# Altium footprint library PCB_Footprint.PcbLib: 124 footprints (part 7 of 8)
Each footprint in its own frame and in the unit in brackets; x right, y up, seen from the top. Pads: shape width x height; smd on the part's side, far side on the other; paste and mask are expansions set on the pad; w line width, h text height; cw(c..) or ccw(c..) is an arc to the next point about the centre after c.
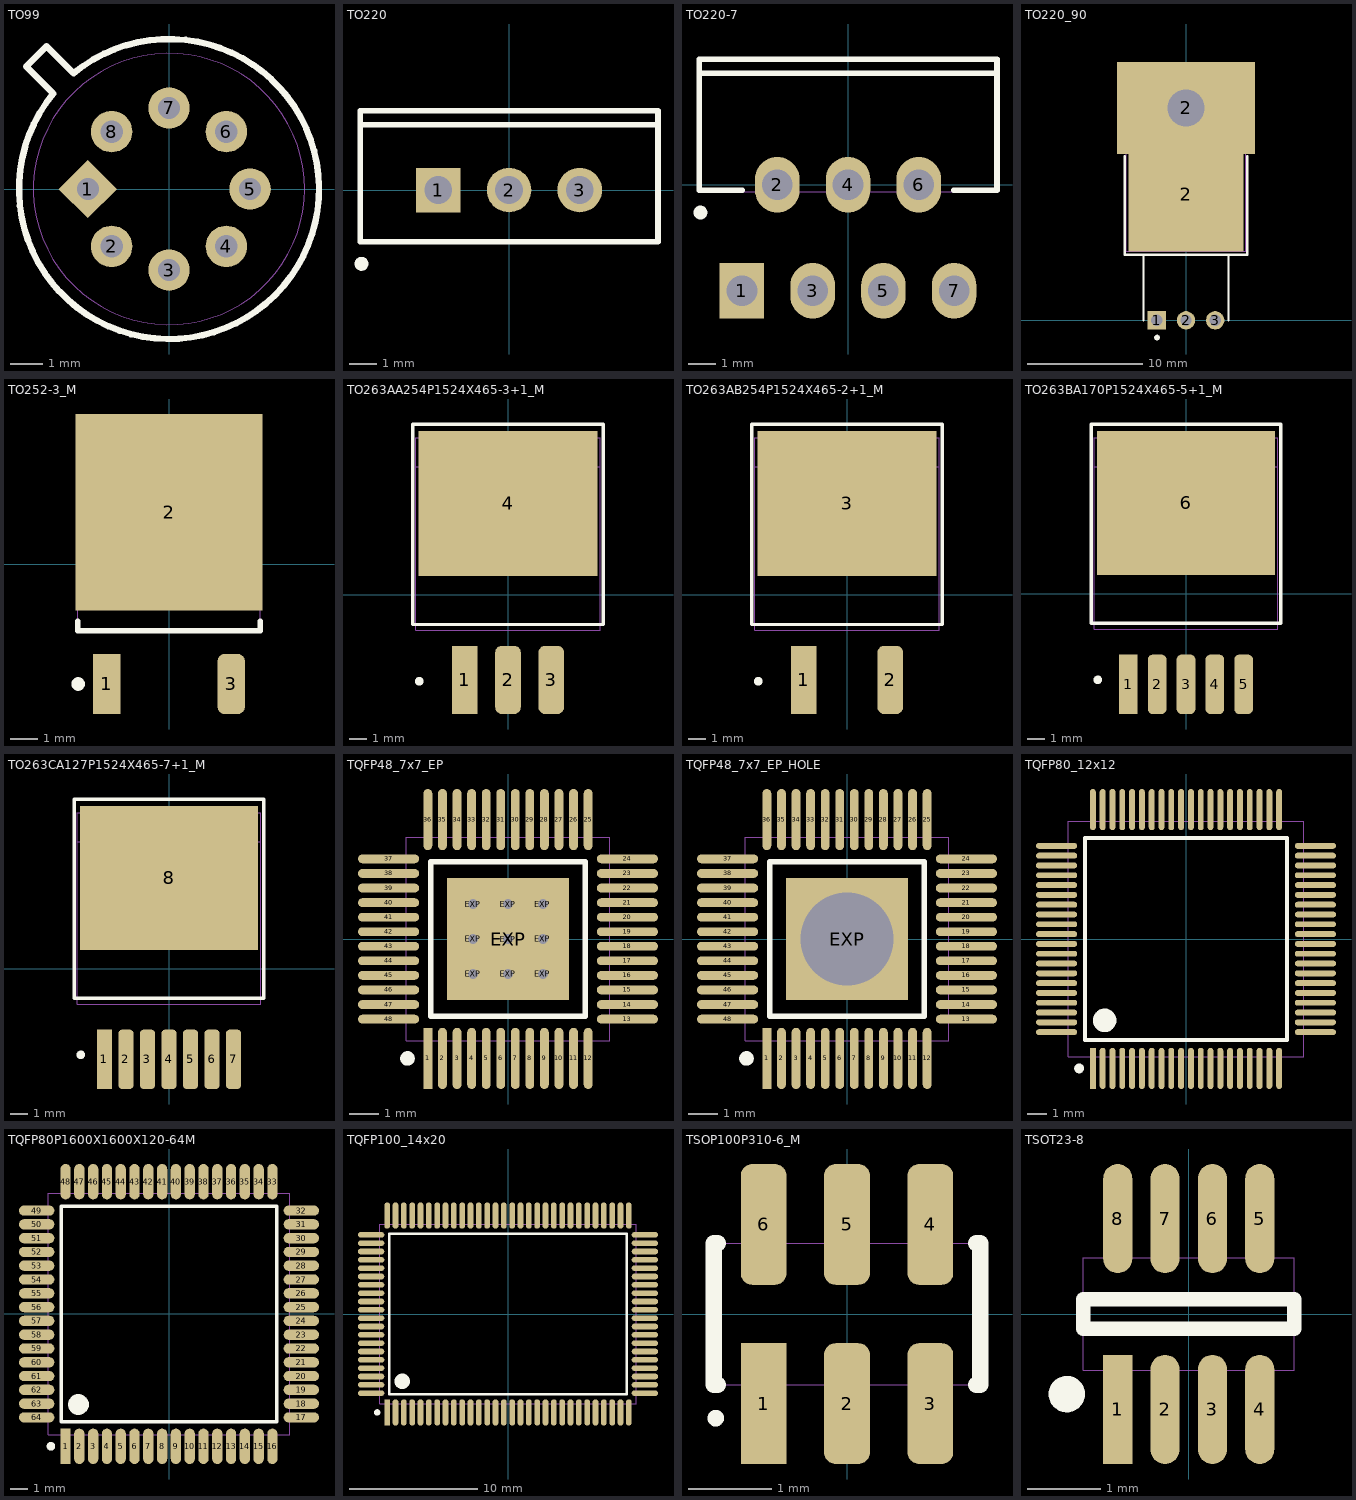
[diagram p6: the footprints below, top view; thin cyan lines are the x and y axes]

## TO99 [mm] "Can; 8 Leads; Pin Circle Dia. 5.08 mm; Lead Dia. 0.51 mm (max)"
height 4.69
pads (8):
  rect 1.3x1.3 / inner round 1.6 / far side rect 1.5x1.5 hole 0.7 rot 45: 1(-2.54,0)
  round 1.3 / inner round 1.6 / far side round 1.5 hole 0.7: 2(-1.796,-1.796) 3(0,-2.54) 4(1.796,-1.796) 5(2.54,0) 6(1.796,1.796) 7(0,2.54) 8(-1.796,1.796)
Top Overlay:
  lines w0.2: -4.475,3.838 -3.626,2.99 ccw(c0,0) -2.99,3.626 -3.838,4.475 -4.475,3.838
Component Body:
  circle w0.01: c0,0 r4.25
  lines w0.01: -4.475,3.838 -3.838,4.475 -2.99,3.626 cw(c0,0) -3.626,2.99 -4.475,3.838
3D body: height 4.69, standoff 0, extent -4.249,-4.249 4.249,4.249
3D body: height 0.9, standoff 0, extent -4.702,-4.712 4.7,4.705
3D body: height 2.5, standoff -6.5, extent -2.788,-0.249 -2.29,0.25
3D body: height 2.5, standoff -6.5, extent -2.044,-2.045 -1.546,-1.546
3D body: height 2.5, standoff -6.5, extent -0.248,-2.789 0.25,-2.29
3D body: height 2.5, standoff -6.5, extent 1.548,-2.045 2.046,-1.546
3D body: height 2.5, standoff -6.5, extent 2.292,-0.249 2.79,0.25
3D body: height 2.5, standoff -6.5, extent 1.548,1.547 2.046,2.046
3D body: height 2.5, standoff -6.5, extent -0.248,2.291 0.25,2.79
3D body: height 2.5, standoff -6.5, extent -2.044,1.547 -1.546,2.046

## TO220 [mm] "TO, Thru-Hole, Vertical, Heatsink Mounted; 3 In-Line Leads; Pitch 2.54 mm"
height 19.4
pads (3):
  rect 1.6x1.6 / inner rect 1.9x1.9 / far side rect 1.6x1.6 hole 1: 1(-2.54,0)
  round 1.6 / inner round 1.9 / far side round 1.6 hole 1: 2(0,0) 3(2.54,0)
Top Overlay:
  circle w0.25: c-5.3,-2.65 r0.125
  lines w0.2: -5.35,2.35 5.35,2.35 ; -5.35,-1.85 -5.35,2.85 5.35,2.85 5.35,-1.85 -5.35,-1.85
Component Body:
  lines w0.01: -5.3,-1.9 -5.3,2.8 5.3,2.8 5.3,-1.9 -5.3,-1.9
3D body: height 18.19, standoff 14.6, extent -1.793,1.55 1.8,2.85
3D body: height 0, standoff -10, extent -2.94,-0.3 -2.14,0.3
3D body: height 0, standoff -10, extent 2.14,-0.3 2.94,0.3
3D body: height 0, standoff -10, extent -0.4,-0.3 0.4,0.3
3D body: height 3.7, standoff 0, extent 1.84,-0.3 3.24,0.3
3D body: height 3.7, standoff 0, extent -3.24,-0.3 -1.84,0.3
3D body: height 19.2, standoff 3.7, extent -5.1,1.6 5.1,2.8
3D body: height 12.8, standoff 3.7, extent -5.1,-1.7 5.1,1.6
3D body: height 3.7, standoff 0, extent -0.7,-0.3 0.7,0.3

## TO220-7 [mm] "TO, Thru-Hole, Vertical, Heatsink Mounted; 7 In-Line Leads; Pitch 1.27 mm"
height 19.4
pads (7):
  rect 1.6x2 hole 1.1: 1(-3.81,-3.81)
  oval 1.6x2 hole 1.1: 2(-2.54,0) 3(-1.27,-3.81) 4(0,0) 5(1.27,-3.81) 6(2.54,0) 7(3.81,-3.81)
Top Overlay:
  circle w0.25: c-5.3,-1 r0.125
  lines w0.2: -5.35,4 5.35,4 ; -3.8,-0.2 -5.35,-0.2 -5.35,4.5 5.35,4.5 5.35,-0.2 3.8,-0.2
Component Body:
  lines w0.01: -5.3,-0.25 -5.3,4.45 5.3,4.45 5.3,-0.25 -5.3,-0.25
3D body: height 6.8, standoff 2, extent 2.083,1.371 2.997,1.929
3D body: height 2.5, standoff -3.8, extent 3.353,-4.089 4.267,-3.531
3D body: height 2.5, standoff -3.8, extent 0.813,-4.089 1.727,-3.531
3D body: height 2.5, standoff -3.8, extent -1.727,-4.089 -0.813,-3.531
3D body: height 6.8, standoff 2, extent -2.997,1.371 -2.083,1.929
3D body: height 2.5, standoff 2, extent -4.267,-3.531 -3.353,1.371
3D body: height 6.8, standoff 2, extent -0.457,1.371 0.457,1.929
3D body: height 19.89, standoff 16.3, extent -1.793,3.2 1.8,4.5
3D body: height 20.8, standoff 6.2, extent -5.1,3.25 5.1,4.45
3D body: height 14.5, standoff 6.2, extent -5.1,-0.05 5.1,3.25
3D body: height 6.8, standoff 2, extent -4.267,1.371 -3.353,1.929
3D body: height 6.8, standoff 2, extent -1.727,1.371 -0.813,1.929
3D body: height 6.8, standoff 2, extent 0.813,1.371 1.727,1.929
3D body: height 6.8, standoff 2, extent 3.353,1.371 4.267,1.929
3D body: height 2.5, standoff -6.6, extent -2.997,-0.279 -2.083,0.279
3D body: height 2.5, standoff -6.6, extent -0.457,-0.279 0.457,0.279
3D body: height 2.5, standoff -6.6, extent 2.083,-0.279 2.997,0.279
3D body: height 2.5, standoff -3.8, extent -4.267,-4.089 -3.353,-3.531
3D body: height 2.5, standoff 2, extent -1.727,-3.531 -0.813,1.371
3D body: height 2.5, standoff 2, extent 0.813,-3.531 1.727,1.371
3D body: height 2.5, standoff 2, extent 3.353,-3.531 4.267,1.371
3D body: height 2.5, standoff 2, extent -2.997,0.279 -2.083,1.371
3D body: height 2.5, standoff 2, extent -0.457,0.279 0.457,1.371
3D body: height 2.5, standoff 2, extent 2.083,0.279 2.997,1.371

## TO220_90 [mm] "TO, Thru-Hole, Horizontal, Heatsink Mounted; 3 In-Line Leads; Pitch 2.54 mm"
height 4.6
pads (5):
  rect 1.6x1.6 / inner rect 1.9x1.9 / far side rect 1.6x1.6 hole 1: 1(-2.54,0)
  round 1.6 / inner round 1.9 / far side round 1.6 hole 1: 2(0,0) 3(2.54,0)
  rect 10x10 smd: 2(0,11)
  rect 12x8 / inner round 5 / far side round 6 hole 3.2: 2(0,18.5)
Top Overlay:
  circle w0.25: c-2.525,-1.5 r0.125
  lines w0.2: -5.334,14.3 -5.334,5.715 5.334,5.715 5.334,14.3 ; -3.7,0 -3.7,5.715 ; 3.7,0 3.7,5.715
Component Body:
  lines w0.01: -5.199,6 -5.199,21.499 5.199,21.499 5.199,6 -5.199,6
3D body: height 3.4, standoff 3, extent 1.789,-0.2 3.291,6.501
3D body: height 3.4, standoff 3, extent -3.291,-0.2 -1.789,6.501
3D body: height 3.4, standoff 3, extent -0.751,-0.2 0.751,6.501
3D body: height 1, standoff 0, extent -5.001,18.499 5.001,21.75
3D body: height 1, standoff 0, extent -5.001,15.5 5.001,18.501
3D body: height 3.4, standoff -3, extent 2.24,-0.25 2.84,0.1
3D body: height 3.4, standoff -3, extent -2.84,-0.25 -2.24,0.1
3D body: height 3.4, standoff -3, extent -0.3,-0.25 0.3,0.1
3D body: height 4.55, standoff 0, extent -5,6.501 5,13.2
3D body: height 1, standoff -0.1, extent -4.8,7.8 4.8,15.5
3D body: height -1.02, standoff -5, extent -5,11.525 5,15.517

## TO252-3_M [mm] "D-PAK, 4-Leads, Body 6.1x6.5mm, Pitch 2.285mm, Lead Span 9.7mm, IPC Low Density"
height 2.38
pads (3):
  rect 1x2.2 smd: 1(-2.28,-4.4)
  rect 6.85x7.2 smd: 2(0,1.9)
  rrect50% 1x2.2 smd: 3(2.28,-4.4)
Top Overlay:
  circle w0.25: c-3.33,-4.4 r0.125
  lines w0.2: -3.35,-2.1 -3.35,-2.45 3.35,-2.45 3.35,-2.1
Component Body:
  lines w0.01: -3.35,3.75 3.35,3.75 ; -3.35,-2.45 -3.35,4.95 3.35,4.95 3.35,-2.45 -3.35,-2.45
3D body: height 0.52, standoff 0, extent -3.349,3.751 3.349,4.949
3D body: height 2.38, standoff 0, extent -3.35,-2.45 3.35,3.75
3D body: height 1.5, standoff 1, extent -2.68,-4.2 -1.88,-2.4
3D body: height 1.5, standoff 0, extent -2.68,-4.2 -1.88,-3.7
3D body: height 0.5, standoff 0, extent -2.68,-4.7 -1.88,-4.1
3D body: height 1.5, standoff 1, extent 1.88,-4.2 2.68,-2.4
3D body: height 1.5, standoff 0, extent 1.88,-4.2 2.68,-3.7
3D body: height 0.5, standoff 0, extent 1.88,-4.7 2.68,-4.1

## TO263AA254P1524X465-3+1_M [mm] "TO263AA/D2PAK, 3+1-Leads, Body 10.16x10.4mm, Pitch 2.54mm, Lead Span 15.24mm, IPC Low Density"
height 4.8
pads (4):
  rect 1.5x4 smd: 1(-2.54,-5)
  rrect50% 1.5x4 smd: 2(0,-5) 3(2.54,-5)
  rect 10.5x8.5 smd: 4(0,5.35)
Top Overlay:
  circle w0.25: c-5.205,-5.08 r0.125
  lines w0.2: -5.6,-1.75 5.6,-1.75 5.6,10 -5.6,10 -5.6,-1.75
Component Body:
  lines w0.01: -5.4,7.5 5.4,7.5 ; -5.4,-2.1 5.4,-2.1 5.4,9.2 -5.4,9.2 -5.4,-2.1
3D body: height 1.5, standoff 1, extent 2.04,-4.5 3.04,-2.1
3D body: height 1.5, standoff 0, extent 2.04,-4.5 3.04,-4
3D body: height 0.5, standoff 0, extent 2.04,-6.6 3.04,-4.5
3D body: height 1.5, standoff 1, extent -3.04,-4.5 -2.04,-2.1
3D body: height 1.5, standoff 0, extent -3.04,-4.5 -2.04,-4
3D body: height 0.5, standoff 0, extent -3.04,-6.6 -2.04,-4.5
3D body: height 0.5, standoff 0, extent -0.5,-6.6 0.5,-4.5
3D body: height 1.5, standoff 0, extent -0.5,-4.5 0.5,-4
3D body: height 1.5, standoff 1, extent -0.5,-4.5 0.5,-2.1
3D body: height 1.65, standoff 0, extent -5.399,7.501 5.399,9.199
3D body: height 4.8, standoff 0, extent -5.399,-2.099 5.399,7.499

## TO263AB254P1524X465-2+1_M [mm] "TO263AA/D2PAK, 2+1-Leads, Body 10.16x10.4mm, Pitch 2.54mm, Lead Span 15.24mm, IPC Low Density"
height 4.8
pads (3):
  rect 1.5x4 smd: 1(-2.54,-5)
  rrect50% 1.5x4 smd: 2(2.54,-5)
  rect 10.5x8.5 smd: 3(0,5.35)
Top Overlay:
  circle w0.25: c-5.205,-5.08 r0.125
  lines w0.2: -5.6,-1.75 5.6,-1.75 5.6,10 -5.6,10 -5.6,-1.75
Component Body:
  lines w0.01: -5.4,7.5 5.4,7.5 ; -5.4,-2.1 -5.4,9.2 5.4,9.2 5.4,-2.1 -5.4,-2.1
3D body: height 4.8, standoff 0, extent -5.399,-2.099 5.399,7.499
3D body: height 1.65, standoff 0, extent -5.399,7.501 5.399,9.199
3D body: height 0.5, standoff 0, extent -3.04,-6.6 -2.04,-4.5
3D body: height 1.5, standoff 0, extent -3.04,-4.5 -2.04,-4
3D body: height 1.5, standoff 1, extent -3.04,-4.5 -2.04,-2.1
3D body: height 0.5, standoff 0, extent 2.04,-6.6 3.04,-4.5
3D body: height 1.5, standoff 0, extent 2.04,-4.5 3.04,-4
3D body: height 1.5, standoff 1, extent 2.04,-4.5 3.04,-2.1

## TO263BA170P1524X465-5+1_M [mm] "TO263BA/D2PAK, 5+1-Leads, Body 10.16x10.4mm, Pitch 1.7mm, Lead Span 15.24mm, IPC Low Density"
height 4.8
pads (6):
  rect 1.1x3.5 smd: 1(-3.404,-5.35)
  rrect50% 1.1x3.5 smd: 2(-1.702,-5.35) 3(0,-5.35) 4(1.702,-5.35) 5(3.404,-5.35)
  rect 10.5x8.5 smd: 6(0,5.35)
Top Overlay:
  circle w0.25: c-5.205,-5.08 r0.125
  lines w0.2: -5.6,-1.75 -5.6,10 5.6,10 5.6,-1.75 -5.6,-1.75
Component Body:
  lines w0.01: -5.4,7.5 5.4,7.5 ; -5.4,-2.1 -5.4,9.2 5.4,9.2 5.4,-2.1 -5.4,-2.1
3D body: height 0.5, standoff 0, extent 2.904,-6.6 3.904,-4.5
3D body: height 1.5, standoff 0, extent 2.904,-4.5 3.904,-4
3D body: height 1.5, standoff 1, extent 2.904,-4.5 3.904,-2.1
3D body: height 0.5, standoff 0, extent 1.202,-6.6 2.202,-4.5
3D body: height 1.5, standoff 0, extent 1.202,-4.5 2.202,-4
3D body: height 1.5, standoff 1, extent 1.202,-4.5 2.202,-2.1
3D body: height 0.5, standoff 0, extent -2.202,-6.6 -1.202,-4.5
3D body: height 1.5, standoff 0, extent -2.202,-4.5 -1.202,-4
3D body: height 1.5, standoff 1, extent -2.202,-4.5 -1.202,-2.1
3D body: height 0.5, standoff 0, extent -3.904,-6.6 -2.904,-4.5
3D body: height 1.5, standoff 0, extent -3.904,-4.5 -2.904,-4
3D body: height 1.5, standoff 1, extent -3.904,-4.5 -2.904,-2.1
3D body: height 4.8, standoff 0, extent -5.399,-2.099 5.399,7.499
3D body: height 1.65, standoff 0, extent -5.399,7.501 5.399,9.199
3D body: height 1.5, standoff 1, extent -0.5,-4.5 0.5,-2.1
3D body: height 1.5, standoff 0, extent -0.5,-4.5 0.5,-4
3D body: height 0.5, standoff 0, extent -0.5,-6.6 0.5,-4.5

## TO263CA127P1524X465-7+1_M [mm] "TO263CA/D2PAK, 7+1-Leads, Body 10.16x10.4mm, Pitch 1.27mm, Lead Span 15.24mm, IPC Low Density"
height 4.8
pads (8):
  rect 0.9x3.5 smd: 1(-3.81,-5.35)
  rrect50% 0.9x3.5 smd: 2(-2.54,-5.35) 3(-1.27,-5.35) 4(0,-5.35) 5(1.27,-5.35) 6(2.54,-5.35) 7(3.81,-5.35)
  rect 10.5x8.5 smd: 8(0,5.35)
Top Overlay:
  circle w0.25: c-5.205,-5.08 r0.125
  lines w0.2: -5.6,-1.75 -5.6,10 5.6,10 5.6,-1.75 -5.6,-1.75
Component Body:
  lines w0.01: -5.4,7.5 5.4,7.5 ; -5.4,-2.1 -5.4,9.2 5.4,9.2 5.4,-2.1 -5.4,-2.1
3D body: height 0.5, standoff 0, extent 3.36,-6.6 4.26,-4.5
3D body: height 1.5, standoff 0, extent 3.36,-4.5 4.26,-4
3D body: height 1.5, standoff 1, extent 3.36,-4.5 4.26,-2.1
3D body: height 0.5, standoff 0, extent 2.09,-6.6 2.99,-4.5
3D body: height 1.5, standoff 0, extent 2.09,-4.5 2.99,-4
3D body: height 1.5, standoff 1, extent 2.09,-4.5 2.99,-2.1
3D body: height 0.5, standoff 0, extent 0.82,-6.6 1.72,-4.5
3D body: height 1.5, standoff 0, extent 0.82,-4.5 1.72,-4
3D body: height 1.5, standoff 1, extent 0.82,-4.5 1.72,-2.1
3D body: height 0.5, standoff 0, extent -1.72,-6.6 -0.82,-4.5
3D body: height 1.5, standoff 0, extent -1.72,-4.5 -0.82,-4
3D body: height 1.5, standoff 1, extent -1.72,-4.5 -0.82,-2.1
3D body: height 0.5, standoff 0, extent -2.99,-6.6 -2.09,-4.5
3D body: height 1.5, standoff 0, extent -2.99,-4.5 -2.09,-4
3D body: height 1.5, standoff 1, extent -2.99,-4.5 -2.09,-2.1
3D body: height 0.5, standoff 0, extent -4.26,-6.6 -3.36,-4.5
3D body: height 1.5, standoff 0, extent -4.26,-4.5 -3.36,-4
3D body: height 1.5, standoff 1, extent -4.26,-4.5 -3.36,-2.1
3D body: height 4.8, standoff 0, extent -5.399,-2.099 5.399,7.499
3D body: height 1.65, standoff 0, extent -5.399,7.501 5.399,9.199
3D body: height 1.5, standoff 1, extent -0.45,-4.5 0.45,-2.1
3D body: height 1.5, standoff 0, extent -0.45,-4.5 0.45,-4
3D body: height 0.5, standoff 0, extent -0.45,-6.6 0.45,-4.5

## TQFP48_7x7_EP [mm] "TQFP, 48-Leads, Body 7x7mm, Pitch 0.5mm, with exposed pad; IPC Low Density"
height 1.2
pads (58):
  rect 0.3x2.1 smd: 1(-2.75,-4.1)
  oval 0.3x2.1 smd: 2(-2.25,-4.1) 3(-1.75,-4.1) 4(-1.25,-4.1) 5(-0.75,-4.1) 6(-0.25,-4.1) 7(0.25,-4.1) 8(0.75,-4.1) 9(1.25,-4.1) 10(1.75,-4.1) 11(2.25,-4.1) 12(2.75,-4.1) 25(2.75,4.1) 26(2.25,4.1) 27(1.75,4.1) 28(1.25,4.1) 29(0.75,4.1) 30(0.25,4.1) 31(-0.25,4.1) 32(-0.75,4.1) 33(-1.25,4.1) 34(-1.75,4.1) 35(-2.25,4.1) 36(-2.75,4.1)
  oval 2.1x0.3 smd: 13(4.1,-2.75) 14(4.1,-2.25) 15(4.1,-1.75) 16(4.1,-1.25) 17(4.1,-0.75) 18(4.1,-0.25) 19(4.1,0.25) 20(4.1,0.75) 21(4.1,1.25) 22(4.1,1.75) 23(4.1,2.25) 24(4.1,2.75) 37(-4.1,2.75) 38(-4.1,2.25) 39(-4.1,1.75) 40(-4.1,1.25) 41(-4.1,0.75) 42(-4.1,0.25) 43(-4.1,-0.25) 44(-4.1,-0.75) 45(-4.1,-1.25) 46(-4.1,-1.75) 47(-4.1,-2.25) 48(-4.1,-2.75)
  round 0.65 hole 0.35: EXP(-1.2,-1.199) EXP(-1.2,0.001) EXP(-1.2,1.201) EXP(0,-1.199) EXP(0,0) EXP(0,1.201) EXP(1.2,-1.199) EXP(1.2,0.001) EXP(1.2,1.201)
  rect 4.2x4.2 smd: EXP(0,0)
Top Overlay:
  circle w0.25: c-3.45,-4.1 r0.125
  lines w0.2: -2.65,-2.65 2.65,-2.65 2.65,2.65 -2.65,2.65 -2.65,-2.65
Bottom Solder:
  circle w0.4: c0,0 r0.2
Component Body:
  lines w0.01: -3.5,-3.5 3.5,-3.5 3.5,3.5 -3.5,3.5 -3.5,-3.5
3D body: height 1.2, standoff 0, extent -3.5,-3.5 3.5,3.5

## TQFP48_7x7_EP_HOLE [mm] "TQFP, 48-Leads, Body 7x7mm, Pitch 0.5mm, with exposed pad,  Hole in exposed pad; IPC Low Density"
height 1.2
pads (49):
  rect 0.3x2.1 smd: 1(-2.75,-4.1)
  oval 0.3x2.1 smd: 2(-2.25,-4.1) 3(-1.75,-4.1) 4(-1.25,-4.1) 5(-0.75,-4.1) 6(-0.25,-4.1) 7(0.25,-4.1) 8(0.75,-4.1) 9(1.25,-4.1) 10(1.75,-4.1) 11(2.25,-4.1) 12(2.75,-4.1) 25(2.75,4.1) 26(2.25,4.1) 27(1.75,4.1) 28(1.25,4.1) 29(0.75,4.1) 30(0.25,4.1) 31(-0.25,4.1) 32(-0.75,4.1) 33(-1.25,4.1) 34(-1.75,4.1) 35(-2.25,4.1) 36(-2.75,4.1)
  oval 2.1x0.3 smd: 13(4.1,-2.75) 14(4.1,-2.25) 15(4.1,-1.75) 16(4.1,-1.25) 17(4.1,-0.75) 18(4.1,-0.25) 19(4.1,0.25) 20(4.1,0.75) 21(4.1,1.25) 22(4.1,1.75) 23(4.1,2.25) 24(4.1,2.75) 37(-4.1,2.75) 38(-4.1,2.25) 39(-4.1,1.75) 40(-4.1,1.25) 41(-4.1,0.75) 42(-4.1,0.25) 43(-4.1,-0.25) 44(-4.1,-0.75) 45(-4.1,-1.25) 46(-4.1,-1.75) 47(-4.1,-2.25) 48(-4.1,-2.75)
  rect 4.2x4.2 hole 3.2: EXP(0,0)
Top Overlay:
  circle w0.25: c-3.45,-4.1 r0.125
  lines w0.2: -2.65,-2.65 -2.65,2.65 2.65,2.65 2.65,-2.65 -2.65,-2.65
Component Body:
  lines w0.01: -3.5,-3.5 -3.5,3.5 3.5,3.5 3.5,-3.5 -3.5,-3.5
3D body: height 1.2, standoff 0, extent -3.5,-3.5 3.5,3.5

## TQFP80_12x12 [mm] "Thin QFP, 80-Leads, Body 12x12mm, Pitch 0.5mm, IPC Low Density"
height 1.6
pads (80):
  rect 0.3x2.1 smd: 1(-4.75,-6.6)
  oval 0.3x2.1 smd: 2(-4.25,-6.6) 3(-3.75,-6.6) 4(-3.25,-6.6) 5(-2.75,-6.6) 6(-2.25,-6.6) 7(-1.75,-6.6) 8(-1.25,-6.6) 9(-0.75,-6.6) 10(-0.25,-6.6) 11(0.25,-6.6) 12(0.75,-6.6) 13(1.25,-6.6) 14(1.75,-6.6) 15(2.25,-6.6) 16(2.75,-6.6) 17(3.25,-6.6) 18(3.75,-6.6) 19(4.25,-6.6) 20(4.75,-6.6) 41(4.75,6.6) 42(4.25,6.6) 43(3.75,6.6) 44(3.25,6.6) 45(2.75,6.6) 46(2.25,6.6) 47(1.75,6.6) 48(1.25,6.6) 49(0.75,6.6) 50(0.25,6.6) 51(-0.25,6.6) 52(-0.75,6.6) 53(-1.25,6.6) 54(-1.75,6.6) 55(-2.25,6.6) 56(-2.75,6.6) 57(-3.25,6.6) 58(-3.75,6.6) 59(-4.25,6.6) 60(-4.75,6.6)
  oval 2.1x0.3 smd: 21(6.6,-4.75) 22(6.6,-4.25) 23(6.6,-3.75) 24(6.6,-3.25) 25(6.6,-2.75) 26(6.6,-2.25) 27(6.6,-1.75) 28(6.6,-1.25) 29(6.6,-0.75) 30(6.6,-0.25) 31(6.6,0.25) 32(6.6,0.75) 33(6.6,1.25) 34(6.6,1.75) 35(6.6,2.25) 36(6.6,2.75) 37(6.6,3.25) 38(6.6,3.75) 39(6.6,4.25) 40(6.6,4.75) 61(-6.6,4.75) 62(-6.6,4.25) 63(-6.6,3.75) 64(-6.6,3.25) 65(-6.6,2.75) 66(-6.6,2.25) 67(-6.6,1.75) 68(-6.6,1.25) 69(-6.6,0.75) 70(-6.6,0.25) 71(-6.6,-0.25) 72(-6.6,-0.75) 73(-6.6,-1.25) 74(-6.6,-1.75) 75(-6.6,-2.25) 76(-6.6,-2.75) 77(-6.6,-3.25) 78(-6.6,-3.75) 79(-6.6,-4.25) 80(-6.6,-4.75)
Top Overlay:
  circle w0.6: c-4.15,-4.15 r0.3
  circle w0.25: c-5.45,-6.6 r0.125
  lines w0.2: -5.15,-5.15 -5.15,5.15 5.15,5.15 5.15,-5.15 -5.15,-5.15
Component Body:
  lines w0.01: -6,-6 -6,6 6,6 6,-6 -6,-6
3D body: height 1.6, standoff 0, extent -6,-6 6,6

## TQFP80P1600X1600X120-64M [mm] "TQFP, 64-Leads, Body 14x14mm (span 16x16mm), Pitch 0,80mm, IPC Low Density"
height 1.2
pads (64):
  rect 0.6x2.05 smd: 1(-6,-7.675)
  oval 0.6x2.05 smd: 2(-5.2,-7.675) 3(-4.4,-7.675) 4(-3.6,-7.675) 5(-2.8,-7.675) 6(-2,-7.675) 7(-1.2,-7.675) 8(-0.4,-7.675) 9(0.4,-7.675) 10(1.2,-7.675) 11(2,-7.675) 12(2.8,-7.675) 13(3.6,-7.675) 14(4.4,-7.675) 15(5.2,-7.675) 16(6,-7.675) 33(6,7.675) 34(5.2,7.675) 35(4.4,7.675) 36(3.6,7.675) 37(2.8,7.675) 38(2,7.675) 39(1.2,7.675) 40(0.4,7.675) 41(-0.4,7.675) 42(-1.2,7.675) 43(-2,7.675) 44(-2.8,7.675) 45(-3.6,7.675) 46(-4.4,7.675) 47(-5.2,7.675) 48(-6,7.675)
  oval 2.05x0.6 smd: 17(7.675,-6) 18(7.675,-5.2) 19(7.675,-4.4) 20(7.675,-3.6) 21(7.675,-2.8) 22(7.675,-2) 23(7.675,-1.2) 24(7.675,-0.4) 25(7.675,0.4) 26(7.675,1.2) 27(7.675,2) 28(7.675,2.8) 29(7.675,3.6) 30(7.675,4.4) 31(7.675,5.2) 32(7.675,6) 49(-7.675,6) 50(-7.675,5.2) 51(-7.675,4.4) 52(-7.675,3.6) 53(-7.675,2.8) 54(-7.675,2) 55(-7.675,1.2) 56(-7.675,0.4) 57(-7.675,-0.4) 58(-7.675,-1.2) 59(-7.675,-2) 60(-7.675,-2.8) 61(-7.675,-3.6) 62(-7.675,-4.4) 63(-7.675,-5.2) 64(-7.675,-6)
Top Overlay:
  circle w0.6: c-5.25,-5.25 r0.3
  circle w0.25: c-6.85,-7.675 r0.125
  lines w0.2: -6.25,-6.25 -6.25,6.25 6.25,6.25 6.25,-6.25 -6.25,-6.25
Component Body:
  lines w0.01: -7,-7 -7,7 7,7 7,-7 -7,-7
3D body: height 1.2, standoff 0.15, extent -7,-7 7,7

## TQFP100_14x20 [mm] "Thin QFP, 100-Leads, Body 20x14mm, Pitch 0.65mm, IPC Low Density"
height 1.45
pads (100):
  rect 0.45x2.05 smd: 1(-9.425,-7.675)
  oval 0.45x2.05 smd: 2(-8.775,-7.675) 3(-8.125,-7.675) 4(-7.475,-7.675) 5(-6.825,-7.675) 6(-6.175,-7.675) 7(-5.525,-7.675) 8(-4.875,-7.675) 9(-4.225,-7.675) 10(-3.575,-7.675) 11(-2.925,-7.675) 12(-2.275,-7.675) 13(-1.625,-7.675) 14(-0.975,-7.675) 15(-0.325,-7.675) 16(0.325,-7.675) 17(0.975,-7.675) 18(1.625,-7.675) 19(2.275,-7.675) 20(2.925,-7.675) 21(3.575,-7.675) 22(4.225,-7.675) 23(4.875,-7.675) 24(5.525,-7.675) 25(6.175,-7.675) 26(6.825,-7.675) 27(7.475,-7.675) 28(8.125,-7.675) 29(8.775,-7.675) 30(9.425,-7.675) 51(9.425,7.675) 52(8.775,7.675) 53(8.125,7.675) 54(7.475,7.675) 55(6.825,7.675) 56(6.175,7.675) 57(5.525,7.675) 58(4.875,7.675) 59(4.225,7.675) 60(3.575,7.675) 61(2.925,7.675) 62(2.275,7.675) 63(1.625,7.675) 64(0.975,7.675) 65(0.325,7.675) 66(-0.325,7.675) 67(-0.975,7.675) 68(-1.625,7.675) 69(-2.275,7.675) 70(-2.925,7.675) 71(-3.575,7.675) 72(-4.225,7.675) 73(-4.875,7.675) 74(-5.525,7.675) 75(-6.175,7.675) 76(-6.825,7.675) 77(-7.475,7.675) 78(-8.125,7.675) 79(-8.775,7.675) 80(-9.425,7.675)
  oval 2.05x0.45 smd: 31(10.675,-6.175) 32(10.675,-5.525) 33(10.675,-4.875) 34(10.675,-4.225) 35(10.675,-3.575) 36(10.675,-2.925) 37(10.675,-2.275) 38(10.675,-1.625) 39(10.675,-0.975) 40(10.675,-0.325) 41(10.675,0.325) 42(10.675,0.975) 43(10.675,1.625) 44(10.675,2.275) 45(10.675,2.925) 46(10.675,3.575) 47(10.675,4.225) 48(10.675,4.875) 49(10.675,5.525) 50(10.675,6.175) 81(-10.675,6.175) 82(-10.675,5.525) 83(-10.675,4.875) 84(-10.675,4.225) 85(-10.675,3.575) 86(-10.675,2.925) 87(-10.675,2.275) 88(-10.675,1.625) 89(-10.675,0.975) 90(-10.675,0.325) 91(-10.675,-0.325) 92(-10.675,-0.975) 93(-10.675,-1.625) 94(-10.675,-2.275) 95(-10.675,-2.925) 96(-10.675,-3.575) 97(-10.675,-4.225) 98(-10.675,-4.875) 99(-10.675,-5.525) 100(-10.675,-6.175)
Top Overlay:
  circle w0.25: c-10.2,-7.675 r0.125
  circle w0.6: c-8.25,-5.25 r0.3
  lines w0.2: -9.25,-6.25 9.25,-6.25 9.25,6.25 -9.25,6.25 -9.25,-6.25
Component Body:
  lines w0.01: -10,-7 10,-7 10,7 -10,7 -10,-7
3D body: height 1.45, standoff 0, extent -10,-7 10,7

## TSOP100P310-6_M [mm] "SOT-457/SC-74; 6 Leads; Body 3.1 x 3 mm, inc. leads (LxW max)"
height 1.1
pads (6):
  rect 0.55x1.45 smd: 1(-1,-1.075)
  rrect50% 0.55x1.45 smd: 2(0,-1.075) 3(1,-1.075) 4(1,1.075) 5(0,1.075) 6(-1,1.075)
Top Overlay:
  circle w0.1: c-1.575,-1.25 r0.05
  lines w0.2: -1.55,-0.85 -1.6,-0.85 -1.6,0.85 -1.55,0.85 ; 1.55,-0.85 1.6,-0.85 1.6,0.85 1.55,0.85
Component Body:
  lines w0.01: -1.55,-0.85 -1.55,0.85 1.55,0.85 1.55,-0.85 -1.55,-0.85
3D body: height 1.1, standoff 0, extent -1.555,-0.855 1.555,0.855

## TSOT23-8 [mm] "TSOT23, 8-Leads, Body 2.9x2.8mm, Pitch 0.65mm, IPC Low Density"
height 1
pads (8):
  rect 0.4x1.5 smd: 1(-0.975,-1.31)
  oval 0.4x1.5 smd: 2(-0.325,-1.31) 3(0.325,-1.31) 4(0.975,-1.31) 5(0.975,1.31) 6(0.325,1.31) 7(-0.325,1.31) 8(-0.975,1.31)
Top Overlay:
  circle w0.25: c-1.675,-1.1 r0.125
  lines w0.2: -1.45,-0.2 1.45,-0.2 1.45,0.2 -1.45,0.2 -1.45,-0.2
Component Body:
  lines w0.01: -1.45,-0.775 -1.45,0.775 1.45,0.775 1.45,-0.775 -1.45,-0.775
3D body: height 1, standoff 0, extent -1.449,-0.775 1.449,0.774